# EAGLE library part MICRO_USB (library Board4You)
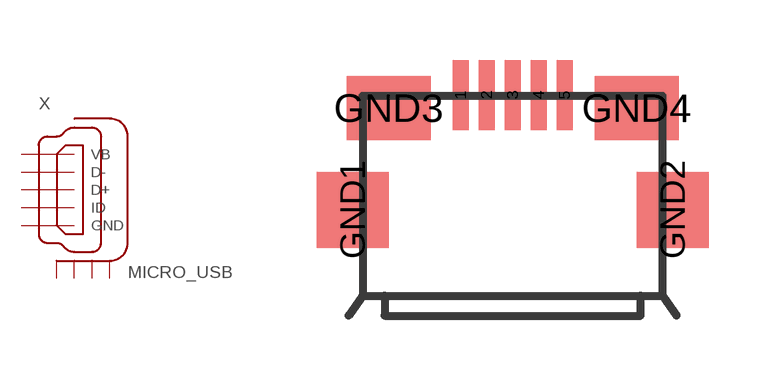
[diagram p3: symbol with the pads of MICRO-USB; footprint MICRO-USB]

Designator prefix X

## MICRO_USB  [MICRO-USB]
1  VB  pas
2  D-  pas
3  D+  pas
4  ID  pas
5  GND  pas
GND1  S1  pas
GND2  S2  pas
GND3  S3  pas
GND4  S4  pas

## Footprint MICRO-USB (pad centres in mm)
smd 0.4 x 1.75: 1 -1.3,2.875; 2 -0.65,2.875; 3 0,2.875; 4 0.65,2.875; 5 1.3,2.875
smd 1.8 x 1.9: GND1 -4,0; GND2 4,0
smd 2.1 x 1.6: GND3 -3.1,2.55; GND4 3.1,2.55